# EAGLE library part PINHD-1X6 (library Gekkio-connector)
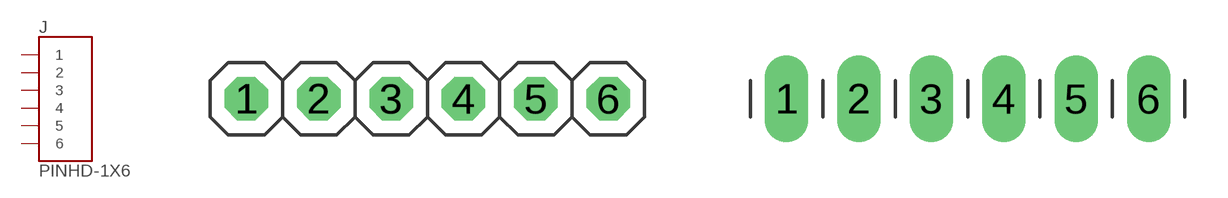
[diagram p1: symbol with the pads of 1X6; footprints 1X6, 1X6-LONGPADS]

Designator prefix J

## PINHD-1X6  [1X6]
1  1  pas
2  2  pas
3  3  pas
4  4  pas
5  5  pas
6  6  pas

## PINHD-1X6LONGPADS  [1X6-LONGPADS]
Pads as for 1X6

## Footprint 1X6 (pad centres in mm)
drill 1.016 octagon: 1 -6.35,0; 2 -3.81,0; 3 -1.27,0; 4 1.27,0; 5 3.81,0; 6 6.35,0

## Footprint 1X6-LONGPADS (pad centres in mm)
drill 1.016 long: 1 -6.35,0; 2 -3.81,0; 3 -1.27,0; 4 1.27,0; 5 3.81,0; 6 6.35,0